# Altium footprint library hsbest2.PcbLib: 365 footprints (part 17 of 23)
Each footprint in its own frame and in the unit in brackets; x right, y up, seen from the top. Pads: shape width x height; smd on the part's side, far side on the other; paste and mask are expansions set on the pad; w line width, h text height; cw(c..) or ccw(c..) is an arc to the next point about the centre after c.
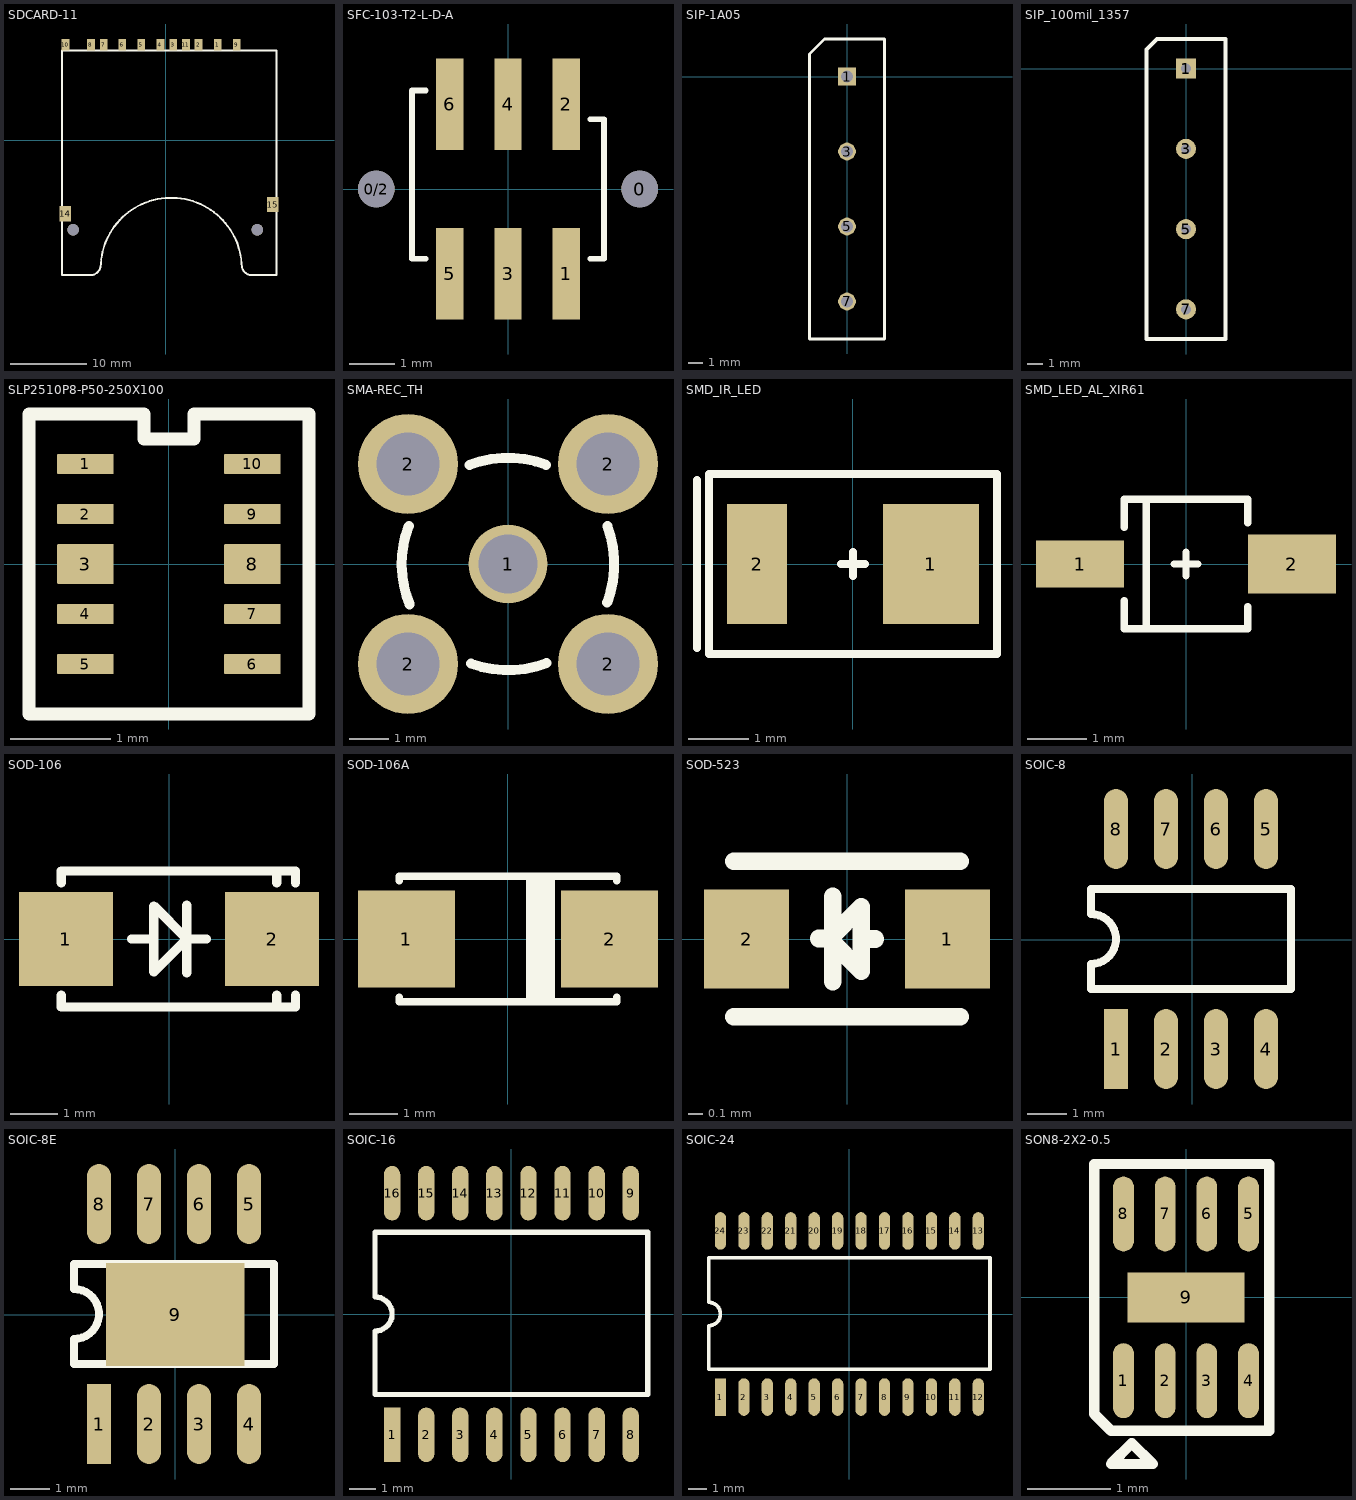
[diagram p16: the footprints below, top view; thin cyan lines are the x and y axes]

## SDCARD-11 [mm]
pads (15):
  rect 1x1.5 smd: 1(6.813,12.527) 2(4.313,12.527) 3(1.013,12.527) 4(-0.687,12.527) 5(-3.187,12.527) 6(-5.687,12.527) 7(-8.117,12.527) 8(-9.817,12.527) 9(9.313,12.527) 10(-13.167,12.527) 11(2.663,12.527)
  round 1.5 hole 1.5: 1/1(-12.167,-11.773) 1/2(12.033,-11.773)
  rect 1.5x2 smd: 14(-13.167,-9.673) 15(14.033,-8.473)
Top Overlay:
  lines w0.254: -9.563,-17.703 -13.627,-17.703 -13.627,11.761 14.567,11.761 14.567,-17.703 11.011,-17.703 ; -9.562,-17.703 ccw(c-9.944,-16.306) -8.547,-16.686 ; -8.547,-16.69 cw(c0.724,-16.852) 9.995,-16.69 ; 9.995,-16.688 ccw(c11.392,-16.306) 11.012,-17.704

## SFC-103-T2-L-D-A [mm]
pads (8):
  round 0.8 hole 0.8: 0(2.88,0) 0/2(-2.88,0)
  rect 0.6x2 smd: 1(1.27,-1.85) 2(1.27,1.85) 3(0,-1.85) 4(0,1.85) 5(-1.27,-1.85) 6(-1.27,1.85)
Top Overlay:
  lines w0.127: -1.8,-1.525 -2.1,-1.525 -2.1,2.155 -1.8,2.155 ; 1.8,-1.525 2.1,-1.525 2.1,1.525 1.8,1.525

## SIP-1A05 [mm]
pads (4):
  rect 1.2x1.2 hole 0.8: 1(0,0)
  round 1.2 hole 0.8: 3(0,-5.08) 5(0,-10.16) 7(0,-15.24)
Top Overlay:
  lines w0.2: -2.54,-17.78 2.54,-17.78 2.54,2.54 -1.524,2.54 -2.54,1.524 -2.54,-17.78

## SIP_100mil_1357 [mm]
pads (4):
  rect 1.27x1.27 hole 0.635: 1(0,0)
  round 1.27 hole 0.635: 3(0,-5.08) 5(0,-10.16) 7(0,-15.24)
Top Overlay:
  lines w0.254: 2.5,-17.12 -2.5,-17.12 -2.5,1.214 -1.834,1.88 2.5,1.88 2.5,-17.104

## SLP2510P8-P50-250X100 [mm]
pads (10):
  rrect5% 0.565x0.2 smd: 1(-0.835,1) 2(-0.835,0.5) 4(-0.835,-0.5) 5(-0.835,-1) 6(0.835,-1) 7(0.835,-0.5) 9(0.835,0.5) 10(0.835,1)
  rrect5% 0.565x0.4 smd: 3(-0.835,0) 8(0.835,0)
Top Overlay:
  lines w0.125: -1.4,-1.5 1.4,-1.5 1.4,1.5 0.25,1.5 0.25,1.25 -0.25,1.25 -0.25,1.5 -1.4,1.5 -1.4,-1.5

## SMA-REC_TH [mm]
pads (5):
  round 2 hole 1.5: 1(0,0)
  round 2.54 hole 1.6: 2(-2.54,-2.54) 2(-2.54,2.54) 2(2.54,-2.54) 2(2.54,2.54)
Top Overlay:
  lines w0.254: -2.521,0.968 ccw(c0,0) -2.497,-1.028 ; -0.977,2.517 cw(c0,0) 0.971,2.519 ; -0.938,-2.532 ccw(c0,0) 0.974,-2.518 ; 2.516,-0.979 ccw(c0,0) 2.521,0.966

## SMD_IR_LED [mm]
pads (2):
  rect 1.6x2 smd: 1(1.3,0)
  rect 1x2 smd: 2(-1.6,0)
Top Overlay:
  lines w0.127: -2.6,-1.4 -2.6,1.4 ; -2.4,1.5 -2.4,-1.5 2.375,-1.5 ; -2.375,1.5 2.4,1.5 2.4,-1.5 ; -0.2,0 0.2,0 ; 0,-0.2 0,0.2

## SMD_LED_AL_XIR61 [mm]
pads (2):
  rect 1.5x0.8 smd: 1(-1.8,0)
  rect 1.5x1 smd: 2(1.8,0)
Top Overlay:
  lines w0.127: -1.05,-0.625 -1.05,-1.1 1.05,-1.1 1.05,-0.725 ; -1.05,0.625 -1.05,1.1 1.05,1.1 1.05,0.7 ; -0.675,-1.1 -0.675,1.1 ; -0.2,0 0.2,0 ; 0,-0.2 0,0.2

## SOD-106 [mm]
pads (2):
  rrect0% 2x2 smd: 1(-2.2,0) 2(2.2,0)
Top Overlay:
  lines w0.2: -2.3,-1.2 -2.3,-1.45 2.7,-1.45 2.7,-1.2 ; -2.3,1.2 -2.3,1.45 2.7,1.45 2.7,1.2 ; -0.8,0 -0.322,0 ; -0.322,-0.7 -0.322,0.7 ; -0.322,0.702 0.38,0 ; -0.32,-0.7 0.38,0 ; 0.38,-0.72 0.38,0.72 ; 0.8,0 0.38,0 ; 2.3,-1.45 2.3,-1.2 ; 2.3,1.2 2.3,1.45

## SOD-106A [mm]
pads (2):
  rect 2x2 smd: 1(-2.1,0) 2(2.1,0)
Top Overlay:
  lines w0.152: -2.25,-1.2 -2.25,-1.3 2.25,-1.3 2.25,-1.2 ; -2.25,1.2 -2.25,1.3 2.25,1.3 2.25,1.2 ; 0.45,-1.275 0.45,1.275 ; 0.6,-1.3 0.6,1.3 ; 0.7,-1.3 0.7,1.3 ; 0.8,-1.3 0.8,1.3 ; 0.9,-1.3 0.9,1.3

## SOD-523 [mm]
pads (2):
  rect 0.6x0.7 smd: 1(0.71,0) 2(-0.71,0)
Top Overlay:
  lines w0.125: -0.8,-0.55 0.8,-0.55 ; -0.8,0.55 0.8,0.55 ; -0.2,0.003 -0.1,0.003 ; -0.1,-0.3 -0.1,0.3 ; 0.1,0 0.2,0 ; -0.127,0 0.1,-0.227 0.1,0.227 -0.127,0

## SOIC-8 [mil]
pads (8):
  rect 24x80 smd: 1(-76.34,-109.45)
  oval 24x80 smd: 2(-26.34,-109.45) 3(23.66,-109.45) 4(73.66,-109.45) 5(73.66,110.55) 6(23.66,110.55) 7(-26.34,110.55) 8(-76.34,110.55)
Top Overlay:
  lines w7.87: -101.34,-49.45 98.66,-49.45 98.66,50.55 -101.34,50.55 -101.34,25.55 cw(c-101.34,0.55) -101.34,-24.45 -101.34,-49.45

## SOIC-8E [mil]
pads (9):
  rect 24x80 smd: 1(-76.34,-109.45)
  oval 24x80 smd: 2(-26.34,-109.45) 3(23.66,-109.45) 4(73.66,-109.45) 5(73.66,110.55) 6(23.66,110.55) 7(-26.34,110.55) 8(-76.34,110.55)
  rect 138.19x103.15 smd: 9(0,0)
Top Overlay:
  lines w7.87: -101.34,-49.45 98.66,-49.45 98.66,50.55 -101.34,50.55 -101.34,25.55 cw(c-101.34,0.55) -101.34,-24.45 -101.34,-49.45

## SOIC-16 [mil]
pads (16):
  rect 24x80 smd: 1(-175,-177.17)
  oval 24x80 smd: 2(-125,-177.17) 3(-75,-177.17) 4(-25,-177.17) 5(25,-177.17) 6(75,-177.17) 7(125,-177.17) 8(175,-177.17) 9(175,177.17) 10(125,177.17) 11(75,177.17) 12(25,177.17) 13(-25,177.17) 14(-75,177.17) 15(-125,177.17) 16(-175,177.17)
Top Overlay:
  lines w7.87: -200,-118.11 200,-118.11 200,120.08 -200,120.08 -200,25 cw(c-200,0) -200,-25 -200,-118.11

## SOIC-24 [mil]
pads (24):
  rect 24x80 smd: 1(-275,-177.17)
  oval 24x80 smd: 2(-225,-177.17) 3(-175,-177.17) 4(-125,-177.17) 5(-75,-177.17) 6(-25,-177.17) 7(25,-177.17) 8(75,-177.17) 9(125,-177.17) 10(175,-177.17) 11(225,-177.17) 12(275,-177.17) 13(275,177.17) 14(225,177.17) 15(175,177.17) 16(125,177.17) 17(75,177.17) 18(25,177.17) 19(-25,177.17) 20(-75,177.17) 21(-125,177.17) 22(-175,177.17) 23(-225,177.17) 24(-275,177.17)
Top Overlay:
  lines w7.87: 298.62,-118.11 -300,-118.11 -300,-25 ccw(c-300,0) -300,25 -300,120.08 299.61,120.08 ; 300,-118.11 300,120.08

## SON8-2X2-0.5 [mm]
pads (9):
  oval 0.25x0.9 smd: 1(-0.75,-1) 2(-0.25,-1) 3(0.25,-1) 4(0.75,-1) 5(0.75,1) 6(0.25,1) 7(-0.25,1) 8(-0.75,1)
  rect 1.4x0.6 smd: 9(0,0)
Top Overlay:
  lines w0.125: -1.1,-1.4 -0.9,-1.6 1,-1.6 1,1.6 -1.1,1.6 -1.1,-1.4 ; -0.9,-2 -0.65,-1.75 -0.4,-2 -0.9,-2